# EAGLE library part RASPBERRY-PI (library Ava)
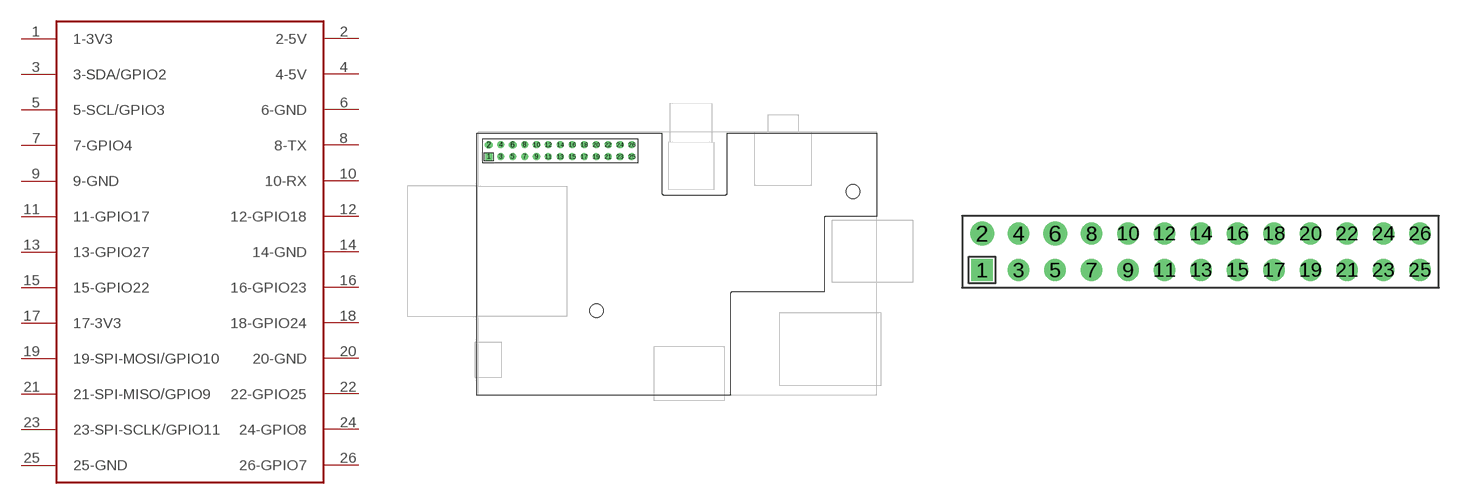
[diagram p41: symbol with the pads of RASPBERRY-PI; footprints RASPBERRY-PI, RASPBERRY-PI-HEADERONLY]

Designator prefix -

## RASPBERRY-PI  [RASPBERRY-PI]
1  1-3V3
2  2-5V
3  3-SDA/GPIO2
4  4-5V
5  5-SCL/GPIO3
6  6-GND
7  7-GPIO4
8  8-TX
9  9-GND
10  10-RX
11  11-GPIO17
12  12-GPIO18
13  13-GPIO27
14  14-GND
15  15-GPIO22
16  16-GPIO23
17  17-3V3
18  18-GPIO24
19  19-SPI-MOSI/GPIO10
20  20-GND
21  21-SPI-MISO/GPIO9
22  22-GPIO25
23  23-SPI-SCLK/GPIO11
24  24-GPIO8
25  25-GND
26  26-GPIO7

## RASPBERRY-PIHEADERONLY  [RASPBERRY-PI-HEADERONLY]
Pads as for RASPBERRY-PI

## RASPBERRY-PITOBY_HEADER  [RASPBERRY-PI-2X13]
P$1  1-3V3
P$2  2-5V
P$3  3-SDA/GPIO2
P$4  4-5V
P$5  5-SCL/GPIO3
P$6  6-GND
P$7  7-GPIO4
P$8  8-TX
P$9  9-GND
P$10  10-RX
P$11  11-GPIO17
P$12  12-GPIO18
P$13  13-GPIO27
P$14  14-GND
P$15  15-GPIO22
P$16  16-GPIO23
P$17  17-3V3
P$18  18-GPIO24
P$19  19-SPI-MOSI/GPIO10
P$20  20-GND
P$21  21-SPI-MISO/GPIO9
P$22  22-GPIO25
P$23  23-SPI-SCLK/GPIO11
P$24  24-GPIO8
P$25  25-GND
P$26  26-GPIO7

## Footprint RASPBERRY-PI (pad centres in mm)
drill 1 square: 1 0,0
drill 1 pad 1.676: 2 0,2.54; 6 5.08,2.54
drill 1: 3 2.54,0; 4 2.54,2.54; 5 5.08,0; 7 7.62,0; 8 7.62,2.54; 9 10.16,0; 10 10.16,2.54; 11 12.7,0; 12 12.7,2.54; 13 15.24,0; 14 15.24,2.54; 15 17.78,0; 16 17.78,2.54; 17 20.32,0; 18 20.32,2.54; 19 22.86,0; 20 22.86,2.54; 21 25.4,0; 22 25.4,2.54; 23 27.94,0; 24 27.94,2.54; 25 30.48,0; 26 30.48,2.54
hole 2.9 at 22.96,-32.8
hole 2.9 at 77.55,-7.42

## Footprint RASPBERRY-PI-HEADERONLY (pad centres in mm)
drill 1 square: 1 -15.24,-1.27
drill 1 pad 1.676: 2 -15.24,1.27; 6 -10.16,1.27
drill 1: 3 -12.7,-1.27; 4 -12.7,1.27; 5 -10.16,-1.27; 7 -7.62,-1.27; 8 -7.62,1.27; 9 -5.08,-1.27; 10 -5.08,1.27; 11 -2.54,-1.27; 12 -2.54,1.27; 13 0,-1.27; 14 0,1.27; 15 2.54,-1.27; 16 2.54,1.27; 17 5.08,-1.27; 18 5.08,1.27; 19 7.62,-1.27; 20 7.62,1.27; 21 10.16,-1.27; 22 10.16,1.27; 23 12.7,-1.27; 24 12.7,1.27; 25 15.24,-1.27; 26 15.24,1.27

## Footprint RASPBERRY-PI-2X13 (pad centres in mm)
smd 0.889 x 1.68: P$1 -23.97,21.905; P$2 -23.97,27.145; P$3 -21.43,21.905; P$4 -21.43,27.145; P$5 -18.89,21.905; P$6 -18.89,27.145; P$7 -16.35,21.905; P$8 -16.35,27.145; P$9 -13.81,21.905; P$10 -13.81,27.145; P$11 -11.27,21.905; P$12 -11.27,27.145; P$13 -8.73,21.905; P$14 -8.73,27.145; P$15 -6.19,21.905; P$16 -6.19,27.145; P$17 -3.65,21.905; P$18 -3.65,27.145; P$19 -1.11,21.905; P$20 -1.11,27.145; P$21 1.43,21.905; P$22 1.43,27.145; P$23 3.97,21.905; P$24 3.97,27.145; P$25 6.51,21.905; P$26 6.51,27.145
hole 1.78 at -22.7,24.5
hole 1.78 at 5.24,24.5
hole 0.97 at -23.97,25.77
hole 0.97 at -21.43,25.77
hole 0.97 at -18.89,25.77
hole 0.97 at -16.35,25.77
hole 0.97 at -13.81,25.77
hole 0.97 at -11.27,25.77
hole 0.97 at -8.73,25.77
hole 0.97 at -6.19,25.77
hole 0.97 at -3.65,25.77
hole 0.97 at -1.11,25.77
hole 0.97 at 1.43,25.77
hole 0.97 at 3.97,25.77
hole 0.97 at 6.51,25.77
hole 0.97 at -23.97,23.23
hole 0.97 at -21.43,23.23
hole 0.97 at -18.89,23.23
hole 0.97 at -16.35,23.23
hole 0.97 at -13.81,23.23
hole 0.97 at -11.27,23.23
hole 0.97 at -8.73,23.23
hole 0.97 at -6.19,23.23
hole 0.97 at -3.65,23.23
hole 0.97 at -1.11,23.23
hole 0.97 at 1.43,23.23
hole 0.97 at 3.97,23.23
hole 0.97 at 6.51,23.23
hole 2.9 at -1.011,-9.623